# Altium footprint library HARWIN_S1751-46.PcbLib: 1 footprints
Each footprint in its own frame and in the unit in brackets; x right, y up, seen from the top. Pads: shape width x height; smd on the part's side, far side on the other; paste and mask are expansions set on the pad; w line width, h text height; cw(c..) or ccw(c..) is an arc to the next point about the centre after c.
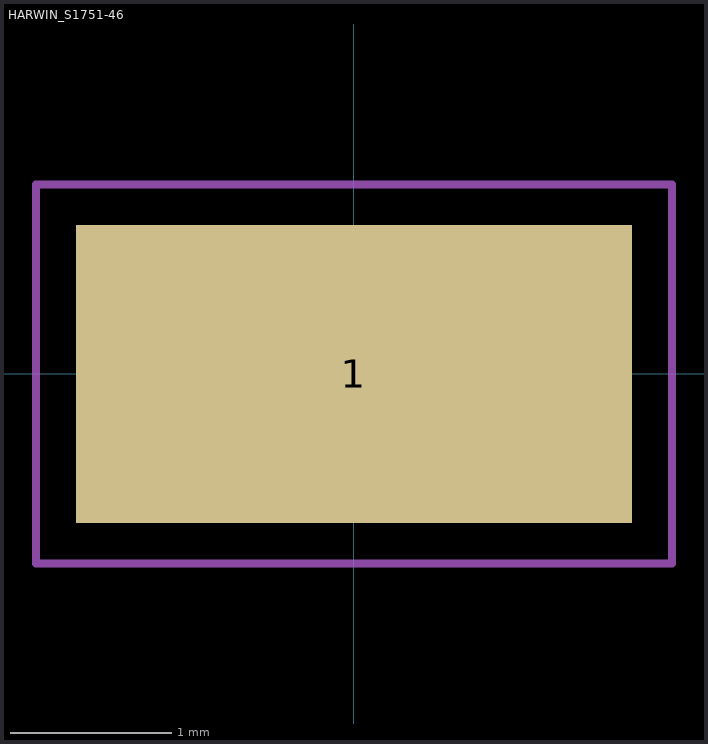
[diagram p0: the footprint, top view; thin cyan lines are the x and y axes]

## HARWIN_S1751-46 [mm]
height 2.05
pads (1):
  rect 3.45x1.85 smd: 1(0,0)
Mechanical 13:
  lines w0.127: -1.625,-0.815 -1.625,0.815 1.625,0.815 1.625,-0.815 -1.625,-0.815
Mechanical 15:
  lines w0.05: -1.975,-1.175 -1.975,1.175 1.975,1.175 1.975,-1.175 -1.975,-1.175